# EAGLE library part 74*3384 (library SE423EagleLibrary)
10-bit FET bus switches with level shifting
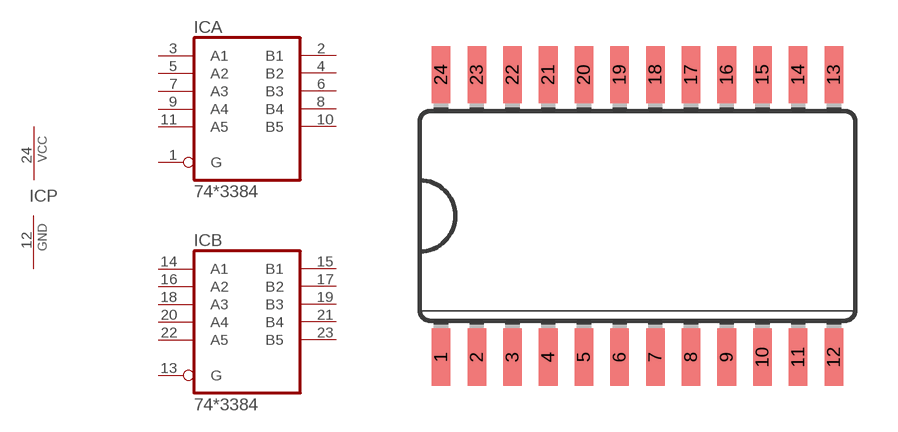
[diagram p6: symbol with the pads of SO24W; footprint SO24W]

Designator prefix IC; gates A=743384 B=743384 P=PWRN

## 743384DW  [SO24W]
1  A:G  in
2  A:B1
3  A:A1
4  A:B2
5  A:A2
6  A:B3
7  A:A3
8  A:B4
9  A:A4
10  A:B5
11  A:A5
12  P:GND  pwr
13  B:G  in
14  B:A1
15  B:B1
16  B:A2
17  B:B2
18  B:A3
19  B:B3
20  B:A4
21  B:B4
22  B:A5
23  B:B5
24  P:VCC  pwr

## Footprint SO24W (pad centres in mm)
Small Outline Package 24 wide
smd 0.66 x 2.032: 1 -6.985,-5.029; 2 -5.715,-5.029; 3 -4.445,-5.029; 4 -3.175,-5.029; 5 -1.905,-5.029; 6 -0.635,-5.029; 7 0.635,-5.029; 8 1.905,-5.029; 9 3.175,-5.029; 10 4.445,-5.029; 11 5.715,-5.029; 12 6.985,-5.029; 13 6.985,5.029; 14 5.715,5.029; 15 4.445,5.029; 16 3.175,5.029; 17 1.905,5.029; 18 0.635,5.029; 19 -0.635,5.029; 20 -1.905,5.029; 21 -3.175,5.029; 22 -4.445,5.029; 23 -5.715,5.029; 24 -6.985,5.029